# EAGLE library part 1491УД2 (library operational-amplifier)
АЕЯР.431130.866-02 ТУ 1491УД2ТВК, 1491УД2Т1ВК - сдвоенный быстродействующий малошумящий прецизионный ОУ, предназначенный для использования в радиоэлектронной аппаратуре специального назначения. Имеет две группы исполнения по параметрам (А и Б). Отличительные особенности: • малые напряжение смещения нуля и температурный дрейф; • 2 канала аналогичных по характеристикам 140УД26 в одном корпусе; • малые габариты и вес; • защита входов и выходов от перегрузки; • независимое питание каналов (возможность резервирования). Микросхема в исполненении ТВК покрыта золотом, в исполнении Т1ВК - никелем. Производитель: АО "Восход"-КРЛЗ г. Калуга.
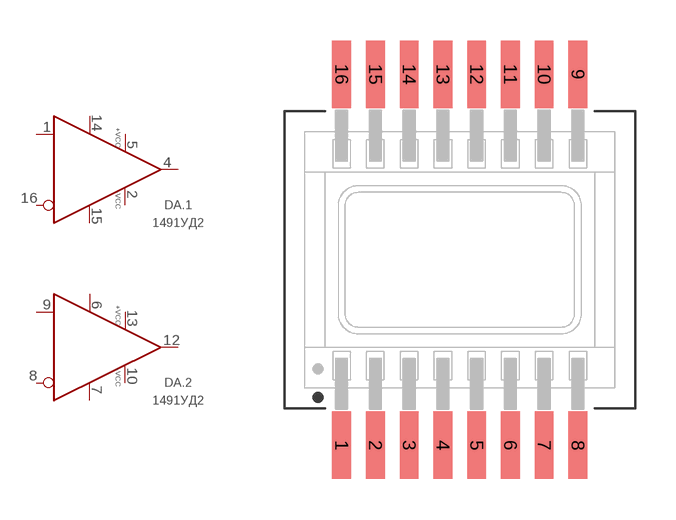
[diagram p3: symbol with the pads of 402.16-32; footprint 402.16-32]

Designator prefix DA; gates .1=OPERATIONAL-AMPLIFIER-BALANCE .2=OPERATIONAL-AMPLIFIER-BALANCE .PWR2=POWER_2 .PWR1=POWER_2

## 1491УД2ТВК  [402.16-32]
1  .1:IN  in
2  .PWR1:-VCC  pwr
4  .1:OUT  out
5  .PWR1:+VCC  pwr
6  .2:BAL  pas
7  .2:!BAL  pas
8  .2:!IN  in
9  .2:IN  in
10  .PWR2:-VCC  pwr
12  .2:OUT  out
13  .PWR2:+VCC  pwr
14  .1:BAL  pas
15  .1:!BAL  pas
16  .1:!IN  in

## 1491УД2Т1ВК  [402.16-32]
Pads as for 402.16-32

## Footprint 402.16-32 (pad centres in mm)
smd 0.7 x 2.5: 1 -4.375,-6.875; 2 -3.125,-6.875; 3 -1.875,-6.875; 4 -0.625,-6.875; 5 0.625,-6.875; 6 1.875,-6.875; 7 3.125,-6.875; 8 4.375,-6.875; 9 4.375,6.875; 10 3.125,6.875; 11 1.875,6.875; 12 0.625,6.875; 13 -0.625,6.875; 14 -1.875,6.875; 15 -3.125,6.875; 16 -4.375,6.875